# Altium schematic symbol library BTS3046SDRATMA1.SchLib: 1 symbol
Pins are listed as number, name and electrical type; pins without a type are passive.

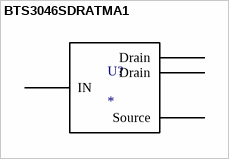
[diagram p0: symbol BTS3046SDRATMA1]

## BTS3046SDRATMA1
designator U?
footprint BTS3046SDRATMA1
pins: 1 IN, 2 Drain, 3 Source, 4 Drain